# EAGLE library part 691309410006 (library Wurth_Elektronik_Electromechanic_Terminal_Blocks_Connectors_rev15c)
WR - TBL Serie 3094 - 7.62mm Reversed Gender Horizontal PCB Header , 6 pins=>Code : Con_TBL_Pluggable_7.62_PCB_H_691309410006 <http://katalog.we-online.de/media/images/eican/Con_TBL_Pluggable_7.62_PCB_H_6913094100xx_pf2.jpg> Details see: http://katalog.we-online.de/en/em/691_309_410_0xx Created 2014-06-25, Karrer Zheng 2014 (C) Würth Elektronik
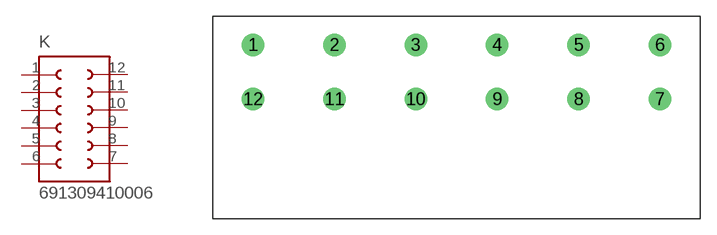
[diagram p197: symbol with the pads of 691309410006; footprint 691309410006]

Designator prefix K

## 691309410006  [691309410006]
1  1  pas
2  2  pas
3  3  pas
4  4  pas
5  5  pas
6  6  pas
7  7  pas
8  8  pas
9  9  pas
10  10  pas
11  11  pas
12  12  pas

## Footprint 691309410006 (pad centres in mm)
WR - TBL Serie 3094 - 7.62mm Reversed Gender Horizontal PCB Header , 6 pins
drill 1.4: 1 -22.86,0; 2 -15.24,0; 3 -7.62,0; 4 0,0; 5 7.62,0; 6 15.24,0; 7 15.24,-5.08; 8 7.62,-5.08; 9 0,-5.08; 10 -7.62,-5.08; 11 -15.24,-5.08; 12 -22.86,-5.08